# Altium schematic symbol library TL084CNE4.SchLib: 1 symbol
Pins are listed as number, name and electrical type; pins without a type are passive.

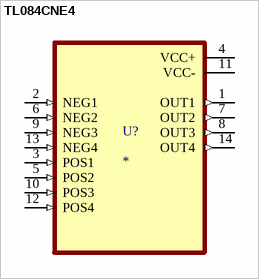
[diagram p0: symbol TL084CNE4]

## TL084CNE4
designator U?
Quad High Slew Rate JFET-Input Operational Amplifier 14-PDIP 0 to 70; MF: Texas Instruments; MP: TL084CNE4; SnapEDA_Link: https://www.snapeda.com/parts/TL084CNE4/Texas+Instruments/view-part/?ref=snap; Package: PDIP-14 Texas Instruments; Value: *; Check_prices: https://www.snapeda.com/parts/TL084CNE4/Texas+Instruments/view-part/?ref=eda
footprint DIP794W45P254L1969H508Q14
pins: 1 OUT1 (out), 2 NEG1 (in), 3 POS1 (in), 4 VCC+ (power), 5 POS2 (in), 6 NEG2 (in), 7 OUT2 (out), 8 OUT3 (out), 9 NEG3 (in), 10 POS3 (in), 11 VCC- (power), 12 POS4 (in), 13 NEG4 (in), 14 OUT4 (out)